# EAGLE library part ADG609 (library analog-devices)
3 V/5 V, 4 Channel High Performance Analog Multiplexers Source: ADG608_609.pdf
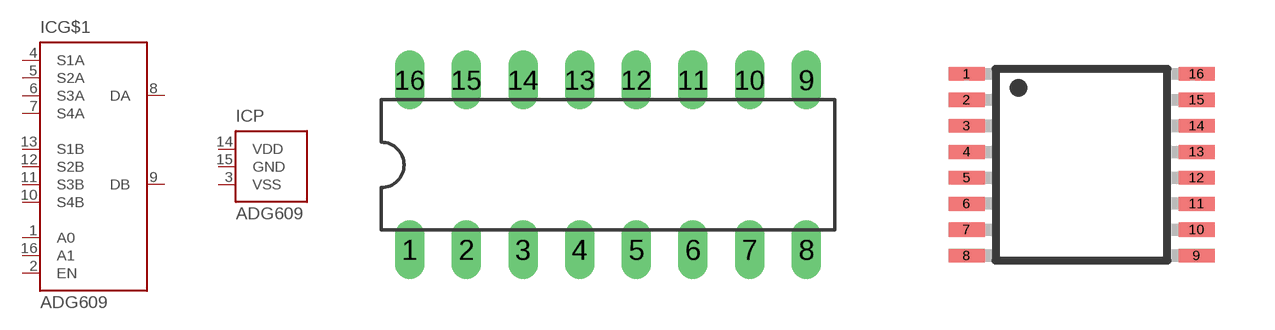
[diagram p121: symbol with the pads of DIL16; footprints DIL16, TSSOP16]

Designator prefix IC; gates G$1=ADG1409 P=PWR-VSS_GND_VDD

## ADG609N (MF: ALTERA CORPORATION; MPN: ADG609BN; OC_FARNELL: 1438945; OC_NEWARK: 66F3790)  [DIL16]
1  G$1:A0  in
2  G$1:EN  in
3  P:VSS  pwr
4  G$1:S1A
5  G$1:S2A
6  G$1:S3A
7  G$1:S4A
8  G$1:DA
9  G$1:DB
10  G$1:S4B
11  G$1:S3B
12  G$1:S2B
13  G$1:S1B
14  P:VDD  pwr
15  P:GND  pwr
16  G$1:A1  in

## ADG609RU (MPN: ADG609BRUZ; OC_FARNELL: 1438945; OC_NEWARK: 19M8664)  [TSSOP16]
Pads as for DIL16

## ADG609R (MPN: ADG609BRZ; OC_FARNELL: 1438945; OC_NEWARK: 15P0386)  [SOIC16N]
Pads as for DIL16

## Footprint DIL16 (pad centres in mm)
Dual In Line Package
drill 0.813 long: 1 -8.89,-3.81; 2 -6.35,-3.81; 3 -3.81,-3.81; 4 -1.27,-3.81; 5 1.27,-3.81; 6 3.81,-3.81; 7 6.35,-3.81; 8 8.89,-3.81; 9 8.89,3.81; 10 6.35,3.81; 11 3.81,3.81; 12 1.27,3.81; 13 -1.27,3.81; 14 -3.81,3.81; 15 -6.35,3.81; 16 -8.89,3.81

## Footprint TSSOP16 (pad centres in mm)
16-Lead Thin Shrink Small Outline Package [TSSOP] (RU-16) Source: 8x ADG1408_1409.pdf
smd 0.9 x 0.35: 1 -2.875,2.275; 2 -2.875,1.625; 3 -2.875,0.975; 4 -2.875,0.325; 5 -2.875,-0.325; 6 -2.875,-0.975; 7 -2.875,-1.625; 8 -2.875,-2.275; 9 2.875,-2.275; 10 2.875,-1.625; 11 2.875,-0.975; 12 2.875,-0.325; 13 2.875,0.325; 14 2.875,0.975; 15 2.875,1.625; 16 2.875,2.275

## Footprint SOIC16N (pad centres in mm)
SMALL OUTLINE INTEGRATED CIRCUIT
smd 0.6 x 2.2: 1 -4.445,-2.6; 2 -3.175,-2.6; 3 -1.905,-2.6; 4 -0.635,-2.6; 5 0.635,-2.6; 6 1.905,-2.6; 7 3.175,-2.6; 8 4.445,-2.6; 9 4.445,2.6; 10 3.175,2.6; 11 1.905,2.6; 12 0.635,2.6; 13 -0.635,2.6; 14 -1.905,2.6; 15 -3.175,2.6; 16 -4.445,2.6